# EAGLE library part 10104110 (library mibe)
10104110 - Micro USB B Type Receptacle
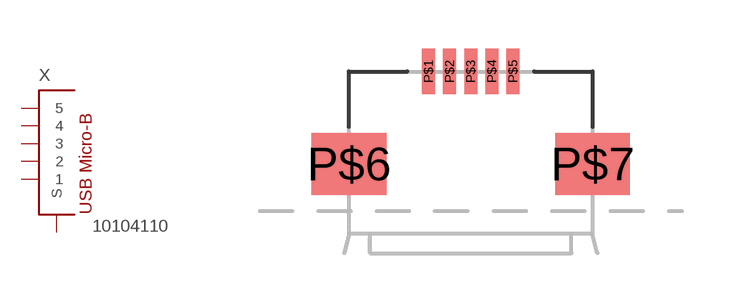
[diagram p2: symbol with the pads of 10104110-0001LF; footprint 10104110-0001LF]

Designator prefix X

## 10104110  [10104110-0001LF]
P$1  1  pas
P$2  2  pas
P$3  3  pas
P$4  4  pas
P$5  5  pas
P$6  S  pas
P$7  S  pas

## Footprint 10104110-0001LF (pad centres in mm)
smd 0.4 x 1.4: P$1 -1.3,4.3; P$2 -0.65,4.3; P$3 0,4.3; P$4 0.65,4.3; P$5 1.3,4.3
smd 2.3 x 1.9: P$6 -3.75,1.45; P$7 3.75,1.45